# EAGLE library part MULITECH-DRAGONFLY-BREAKOUT (library mbed-HDK-misc-Board)
Breakout for Multitech Dragonfly
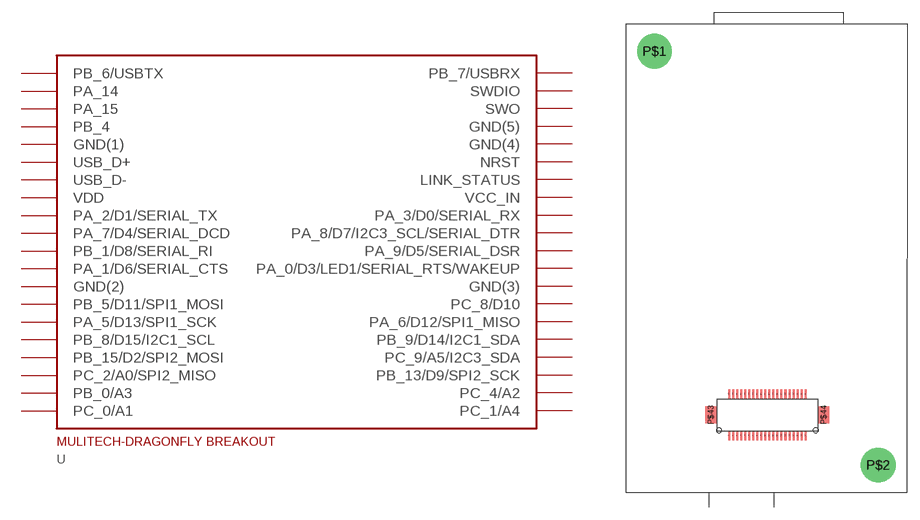
[diagram p3: symbol with the pads of MULITECH-DRAGONFLY-BREAKOUT; footprint MULITECH-DRAGONFLY-BREAKOUT]

Designator prefix -

## MULITECH-DRAGONFLY-BREAKOUT (MF: Hirose; MFN: DF17(2.0)-40DP-0.5V(57); OC-DIGIKEY: H11130CT-ND; OC-MOUSER: 798-DF172040DP05V57; OC-NEWARK: 2300341)  [MULITECH-DRAGONFLY-BREAKOUT]
1  PB_6/USBTX
2  PA_14
3  PA_15
4  PB_4
5  GND(1)
6  USB_D+
7  USB_D-
8  VDD
9  PA_2/D1/SERIAL_TX
10  PA_7/D4/SERIAL_DCD
11  PB_1/D8/SERIAL_RI
12  PA_1/D6/SERIAL_CTS
13  GND(2)
14  PB_5/D11/SPI1_MOSI
15  PA_5/D13/SPI1_SCK
16  PB_8/D15/I2C1_SCL
17  PB_15/D2/SPI2_MOSI
18  PC_2/A0/SPI2_MISO
19  PB_0/A3
20  PC_0/A1
21  PC_1/A4
22  PC_4/A2
23  PB_13/D9/SPI2_SCK
24  PC_9/A5/I2C3_SDA
25  PB_9/D14/I2C1_SDA
26  PA_6/D12/SPI1_MISO
27  PC_8/D10
28  GND(3)
29  PA_0/D3/LED1/SERIAL_RTS/WAKEUP
30  PA_9/D5/SERIAL_DSR
31  PA_8/D7/I2C3_SCL/SERIAL_DTR
32  PA_3/D0/SERIAL_RX
33  VCC_IN
34  LINK_STATUS
35  NRST
36  GND(4)
37  GND(5)
38  SWO
39  SWDIO
40  PB_7/USBRX

## Footprint MULITECH-DRAGONFLY-BREAKOUT (pad centres in mm)
smd 0.25 x 1.15: 1 -22.11,7.08; 2 -21.61,7.08; 3 -21.11,7.08; 4 -20.61,7.08; 5 -20.11,7.08; 6 -19.61,7.08; 7 -19.11,7.08; 8 -18.61,7.08; 9 -18.11,7.08; 10 -17.61,7.08; 11 -17.11,7.08; 12 -16.61,7.08; 13 -16.11,7.08; 14 -15.61,7.08; 15 -15.11,7.08; 16 -14.61,7.08; 17 -14.11,7.08; 18 -13.61,7.08; 19 -13.11,7.08; 20 -12.61,7.08; 21 -12.61,12.23; 22 -13.11,12.23; 23 -13.61,12.23; 24 -14.11,12.23; 25 -14.61,12.23; 26 -15.11,12.23; 27 -15.61,12.23; 28 -16.11,12.23; 29 -16.61,12.23; 30 -17.11,12.23; 31 -17.61,12.23; 32 -18.11,12.23; 33 -18.61,12.23; 34 -19.11,12.23; 35 -19.61,12.23; 36 -20.11,12.23; 37 -20.61,12.23; 38 -21.11,12.23; 39 -21.61,12.23; 40 -22.11,12.23
drill 3.3: P$1 -31.37,54.81; P$2 -3.61,3.43
smd 1.4 x 2.1: P$43 -24.36,9.655; P$44 -10.36,9.655
hole 0.6 at -11.36,7.755
hole 0.6 at -23.36,7.755